# Altium footprint library TLC59283DBQ.PcbLib: 3 footprints
Each footprint in its own frame and in the unit in brackets; x right, y up, seen from the top. Pads: shape width x height; smd on the part's side, far side on the other; paste and mask are expansions set on the pad; w line width, h text height; cw(c..) or ccw(c..) is an arc to the next point about the centre after c.
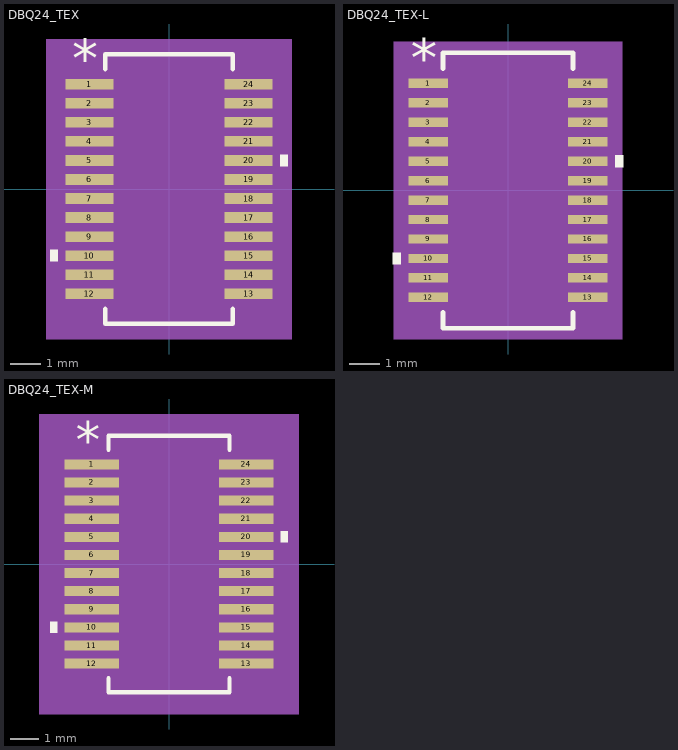
[diagram p0: the footprints below, top view; thin cyan lines are the x and y axes]

## DBQ24_TEX [mil]
pads (24):
  rect 63x14 smd paste+0 mask+0: 1(-104.5,137.5) 2(-104.5,112.5) 3(-104.5,87.5) 4(-104.5,62.5) 5(-104.5,37.5) 6(-104.5,12.5) 7(-104.5,-12.5) 8(-104.5,-37.5) 9(-104.5,-62.5) 10(-104.5,-87.5) 11(-104.5,-112.5) 12(-104.5,-137.5) 13(104.5,-137.5) 14(104.5,-112.5) 15(104.5,-87.5) 16(104.5,-62.5) 17(104.5,-37.5) 18(104.5,-12.5) 19(104.5,12.5) 20(104.5,37.5) 21(104.5,62.5) 22(104.5,87.5) 23(104.5,112.5) 24(104.5,137.5)
Top Overlay:
  region: 146,45 156,45 156,30 146,30
  region: -146,-80 -156,-80 -156,-95 -146,-95
  lines w6: -83.5,-157.6 -83.5,-177 83.5,-177 83.5,-157.6 ; -83.5,157.6 -83.5,177 83.5,177 83.5,157.6
  text "*" at -127,146.5 h50
Mechanical 5:
  region: 161,-197 -161,-197 -161,197 161,197
Mechanical 13:
  lines w0: -12,172 ccw(c0,172) 12,172
  lines w1: -122,-143.5 -78.5,-143.5 -78.5,-131.5 -122,-131.5 -122,-143.5 ; -122,-118.5 -78.5,-118.5 -78.5,-106.5 -122,-106.5 -122,-118.5 ; -122,-93.5 -78.5,-93.5 -78.5,-81.5 -122,-81.5 -122,-93.5 ; -122,-68.5 -78.5,-68.5 -78.5,-56.5 -122,-56.5 -122,-68.5 ; -122,-43.5 -78.5,-43.5 -78.5,-31.5 -122,-31.5 -122,-43.5 ; -122,-18.5 -78.5,-18.5 -78.5,-6.5 -122,-6.5 -122,-18.5 ; -122,6.5 -78.5,6.5 -78.5,18.5 -122,18.5 -122,6.5 ; -122,31.5 -78.5,31.5 -78.5,43.5 -122,43.5 -122,31.5 ; -122,56.5 -78.5,56.5 -78.5,68.5 -122,68.5 -122,56.5 ; -122,81.5 -78.5,81.5 -78.5,93.5 -122,93.5 -122,81.5 ; -122,106.5 -78.5,106.5 -78.5,118.5 -122,118.5 -122,106.5 ; -122,131.5 -78.5,131.5 -78.5,143.5 -122,143.5 -122,131.5 ; -78.5,-172 -78.5,172 78.5,172 78.5,-172 -78.5,-172 ; 78.5,-143.5 122,-143.5 122,-131.5 78.5,-131.5 78.5,-143.5 ; 78.5,-118.5 122,-118.5 122,-106.5 78.5,-106.5 78.5,-118.5 ; 78.5,-93.5 122,-93.5 122,-81.5 78.5,-81.5 78.5,-93.5 ; 78.5,-68.5 122,-68.5 122,-56.5 78.5,-56.5 78.5,-68.5 ; 78.5,-43.5 122,-43.5 122,-31.5 78.5,-31.5 78.5,-43.5 ; 78.5,-18.5 122,-18.5 122,-6.5 78.5,-6.5 78.5,-18.5 ; 78.5,6.5 122,6.5 122,18.5 78.5,18.5 78.5,6.5 ; 78.5,31.5 122,31.5 122,43.5 78.5,43.5 78.5,31.5 ; 78.5,56.5 122,56.5 122,68.5 78.5,68.5 78.5,56.5 ; 78.5,81.5 122,81.5 122,93.5 78.5,93.5 78.5,81.5 ; 78.5,106.5 122,106.5 122,118.5 78.5,118.5 78.5,106.5 ; 78.5,131.5 122,131.5 122,143.5 78.5,143.5 78.5,131.5
  text "*" at -76,119 h50
Mechanical 15:
  region: -88.5,-154.5 -146,-154.5 -146,154.5 -88.5,154.5 -88.5,182 88.5,182 88.5,154.5 146,154.5 146,-154.5 88.5,-154.5 88.5,-182 -88.5,-182
  lines w6: -146,-154.5 -88.5,-154.5 -88.5,-182 88.5,-182 88.5,-154.5 146,-154.5 146,154.5 88.5,154.5 88.5,182 -88.5,182 -88.5,154.5 -146,154.5 -146,-154.5
3D body "DBQ24_TEX.step": height 67.09, standoff 0, extent -122.01,-172.01 122.01,172.01
3D body "DBQ24_TEX.step": height 67.09, standoff 0, extent -122.01,-172.01 122.01,172.01

## DBQ24_TEX-L [mil]
pads (24):
  rect 51x12 smd paste+0 mask+0: 1(-102.5,137.5) 2(-102.5,112.5) 3(-102.5,87.5) 4(-102.5,62.5) 5(-102.5,37.5) 6(-102.5,12.5) 7(-102.5,-12.5) 8(-102.5,-37.5) 9(-102.5,-62.5) 10(-102.5,-87.5) 11(-102.5,-112.5) 12(-102.5,-137.5) 13(102.5,-137.5) 14(102.5,-112.5) 15(102.5,-87.5) 16(102.5,-62.5) 17(102.5,-37.5) 18(102.5,-12.5) 19(102.5,12.5) 20(102.5,37.5) 21(102.5,62.5) 22(102.5,87.5) 23(102.5,112.5) 24(102.5,137.5)
Top Overlay:
  region: -138,-80 -148,-80 -148,-95 -138,-95
  region: 138,45 148,45 148,30 138,30
  lines w6: -83.5,-156.6 -83.5,-177 83.5,-177 83.5,-156.6 ; -83.5,156.6 -83.5,177 83.5,177 83.5,156.6
  text "*" at -125,144.5 h50
Mechanical 5:
  region: 147,-191 -147,-191 -147,191 147,191
Mechanical 13:
  lines w0: -12,172 ccw(c0,172) 12,172
  lines w1: -122,-143.5 -122,-131.5 -78.5,-131.5 -78.5,-143.5 -122,-143.5 ; -122,-118.5 -122,-106.5 -78.5,-106.5 -78.5,-118.5 -122,-118.5 ; -122,-93.5 -122,-81.5 -78.5,-81.5 -78.5,-93.5 -122,-93.5 ; -122,-68.5 -122,-56.5 -78.5,-56.5 -78.5,-68.5 -122,-68.5 ; -122,-43.5 -122,-31.5 -78.5,-31.5 -78.5,-43.5 -122,-43.5 ; -122,-18.5 -122,-6.5 -78.5,-6.5 -78.5,-18.5 -122,-18.5 ; -122,6.5 -122,18.5 -78.5,18.5 -78.5,6.5 -122,6.5 ; -122,31.5 -122,43.5 -78.5,43.5 -78.5,31.5 -122,31.5 ; -122,56.5 -122,68.5 -78.5,68.5 -78.5,56.5 -122,56.5 ; -122,81.5 -122,93.5 -78.5,93.5 -78.5,81.5 -122,81.5 ; -122,106.5 -122,118.5 -78.5,118.5 -78.5,106.5 -122,106.5 ; -122,131.5 -122,143.5 -78.5,143.5 -78.5,131.5 -122,131.5 ; -78.5,-172 78.5,-172 78.5,172 -78.5,172 -78.5,-172 ; 78.5,-143.5 78.5,-131.5 122,-131.5 122,-143.5 78.5,-143.5 ; 78.5,-118.5 78.5,-106.5 122,-106.5 122,-118.5 78.5,-118.5 ; 78.5,-93.5 78.5,-81.5 122,-81.5 122,-93.5 78.5,-93.5 ; 78.5,-68.5 78.5,-56.5 122,-56.5 122,-68.5 78.5,-68.5 ; 78.5,-43.5 78.5,-31.5 122,-31.5 122,-43.5 78.5,-43.5 ; 78.5,-18.5 78.5,-6.5 122,-6.5 122,-18.5 78.5,-18.5 ; 78.5,6.5 78.5,18.5 122,18.5 122,6.5 78.5,6.5 ; 78.5,31.5 78.5,43.5 122,43.5 122,31.5 78.5,31.5 ; 78.5,56.5 78.5,68.5 122,68.5 122,56.5 78.5,56.5 ; 78.5,81.5 78.5,93.5 122,93.5 122,81.5 78.5,81.5 ; 78.5,106.5 78.5,118.5 122,118.5 122,106.5 78.5,106.5 ; 78.5,131.5 78.5,143.5 122,143.5 122,131.5 78.5,131.5
  text "*" at -76,119 h50
Mechanical 15:
  region: -82.5,-147.5 -132,-147.5 -132,147.5 -82.5,147.5 -82.5,176 82.5,176 82.5,147.5 132,147.5 132,-147.5 82.5,-147.5 82.5,-176 -82.5,-176
  lines w6: -132,-147.5 -132,147.5 -82.5,147.5 -82.5,176 82.5,176 82.5,147.5 132,147.5 132,-147.5 82.5,-147.5 82.5,-176 -82.5,-176 -82.5,-147.5 -132,-147.5
3D body "DBQ24_TEX.step": height 67.09, standoff 0, extent -122.01,-172.01 122.01,172.01

## DBQ24_TEX-M [mil]
pads (24):
  rect 75x14 smd paste+0 mask+0: 1(-106.5,137.5) 2(-106.5,112.5) 3(-106.5,87.5) 4(-106.5,62.5) 5(-106.5,37.5) 6(-106.5,12.5) 7(-106.5,-12.5) 8(-106.5,-37.5) 9(-106.5,-62.5) 10(-106.5,-87.5) 11(-106.5,-112.5) 12(-106.5,-137.5) 13(106.5,-137.5) 14(106.5,-112.5) 15(106.5,-87.5) 16(106.5,-62.5) 17(106.5,-37.5) 18(106.5,-12.5) 19(106.5,12.5) 20(106.5,37.5) 21(106.5,62.5) 22(106.5,87.5) 23(106.5,112.5) 24(106.5,137.5)
Top Overlay:
  region: -154,-80 -164,-80 -164,-95 -154,-95
  region: 154,45 164,45 164,30 154,30
  lines w6: -83.5,-157.6 -83.5,-177 83.5,-177 83.5,-157.6 ; -83.5,157.6 -83.5,177 83.5,177 83.5,157.6
  text "*" at -129,146.5 h50
Mechanical 5:
  region: 179,-207 -179,-207 -179,207 179,207
Mechanical 13:
  lines w0: -12,172 ccw(c0,172) 12,172
  lines w1: -122,-143.5 -122,-131.5 -78.5,-131.5 -78.5,-143.5 -122,-143.5 ; -122,-118.5 -122,-106.5 -78.5,-106.5 -78.5,-118.5 -122,-118.5 ; -122,-93.5 -122,-81.5 -78.5,-81.5 -78.5,-93.5 -122,-93.5 ; -122,-68.5 -122,-56.5 -78.5,-56.5 -78.5,-68.5 -122,-68.5 ; -122,-43.5 -122,-31.5 -78.5,-31.5 -78.5,-43.5 -122,-43.5 ; -122,-18.5 -122,-6.5 -78.5,-6.5 -78.5,-18.5 -122,-18.5 ; -122,6.5 -122,18.5 -78.5,18.5 -78.5,6.5 -122,6.5 ; -122,31.5 -122,43.5 -78.5,43.5 -78.5,31.5 -122,31.5 ; -122,56.5 -122,68.5 -78.5,68.5 -78.5,56.5 -122,56.5 ; -122,81.5 -122,93.5 -78.5,93.5 -78.5,81.5 -122,81.5 ; -122,106.5 -122,118.5 -78.5,118.5 -78.5,106.5 -122,106.5 ; -122,131.5 -122,143.5 -78.5,143.5 -78.5,131.5 -122,131.5 ; -78.5,-172 78.5,-172 78.5,172 -78.5,172 -78.5,-172 ; 78.5,-143.5 78.5,-131.5 122,-131.5 122,-143.5 78.5,-143.5 ; 78.5,-118.5 78.5,-106.5 122,-106.5 122,-118.5 78.5,-118.5 ; 78.5,-93.5 78.5,-81.5 122,-81.5 122,-93.5 78.5,-93.5 ; 78.5,-68.5 78.5,-56.5 122,-56.5 122,-68.5 78.5,-68.5 ; 78.5,-43.5 78.5,-31.5 122,-31.5 122,-43.5 78.5,-43.5 ; 78.5,-18.5 78.5,-6.5 122,-6.5 122,-18.5 78.5,-18.5 ; 78.5,6.5 78.5,18.5 122,18.5 122,6.5 78.5,6.5 ; 78.5,31.5 78.5,43.5 122,43.5 122,31.5 78.5,31.5 ; 78.5,56.5 78.5,68.5 122,68.5 122,56.5 78.5,56.5 ; 78.5,81.5 78.5,93.5 122,93.5 122,81.5 78.5,81.5 ; 78.5,106.5 78.5,118.5 122,118.5 122,106.5 78.5,106.5 ; 78.5,131.5 78.5,143.5 122,143.5 122,131.5 78.5,131.5
  text "*" at -76,119 h50
Mechanical 15:
  region: -98.5,-164.5 -164,-164.5 -164,164.5 -98.5,164.5 -98.5,192 98.5,192 98.5,164.5 164,164.5 164,-164.5 98.5,-164.5 98.5,-192 -98.5,-192
  lines w6: -164,-164.5 -164,164.5 -98.5,164.5 -98.5,192 98.5,192 98.5,164.5 164,164.5 164,-164.5 98.5,-164.5 98.5,-192 -98.5,-192 -98.5,-164.5 -164,-164.5
3D body "DBQ24_TEX.step": height 67.09, standoff 0, extent -122.01,-172.01 122.01,172.01